# EAGLE library part IO-WARRIOR40 (library Prof_Lachmayer)
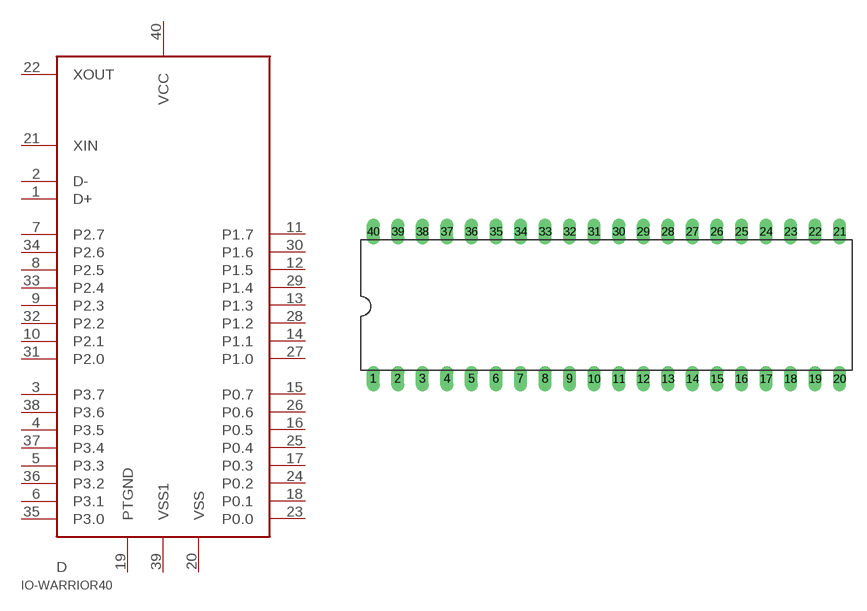
[diagram p0: symbol with the pads of DIL40-6; footprint DIL40-6]

Designator prefix D

## IO-WARRIOR40  [DIL40-6]
1  D+
2  D-
3  P3.7
4  P3.5
5  P3.3
6  P3.1
7  P2.7
8  P2.5
9  P2.3
10  P2.1
11  P1.7
12  P1.5
13  P1.3
14  P1.1
15  P0.7
16  P0.5
17  P0.3
18  P0.1
19  PTGND  pwr
20  VSS  pwr
21  XIN  pas
22  XOUT  pas
23  P0.0
24  P0.2
25  P0.4
26  P0.6
27  P1.0
28  P1.2
29  P1.4
30  P1.6
31  P2.0
32  P2.2
33  P2.4
34  P2.6
35  P3.0
36  P3.2
37  P3.4
38  P3.6
39  VSS1  pwr
40  VCC  pwr

## Footprint DIL40-6 (pad centres in mm)
Dual In Line Package
drill 0.813 long: 1 -24.13,-7.62; 2 -21.59,-7.62; 3 -19.05,-7.62; 4 -16.51,-7.62; 5 -13.97,-7.62; 6 -11.43,-7.62; 7 -8.89,-7.62; 8 -6.35,-7.62; 9 -3.81,-7.62; 10 -1.27,-7.62; 11 1.27,-7.62; 12 3.81,-7.62; 13 6.35,-7.62; 14 8.89,-7.62; 15 11.43,-7.62; 16 13.97,-7.62; 17 16.51,-7.62; 18 19.05,-7.62; 19 21.59,-7.62; 20 24.13,-7.62; 21 24.13,7.62; 22 21.59,7.62; 23 19.05,7.62; 24 16.51,7.62; 25 13.97,7.62; 26 11.43,7.62; 27 8.89,7.62; 28 6.35,7.62; 29 3.81,7.62; 30 1.27,7.62; 31 -1.27,7.62; 32 -3.81,7.62; 33 -6.35,7.62; 34 -8.89,7.62; 35 -11.43,7.62; 36 -13.97,7.62; 37 -16.51,7.62; 38 -19.05,7.62; 39 -21.59,7.62; 40 -24.13,7.62